# EAGLE library part ATSAML10D16A-MFT (library ATSAML10D16A-YFT)
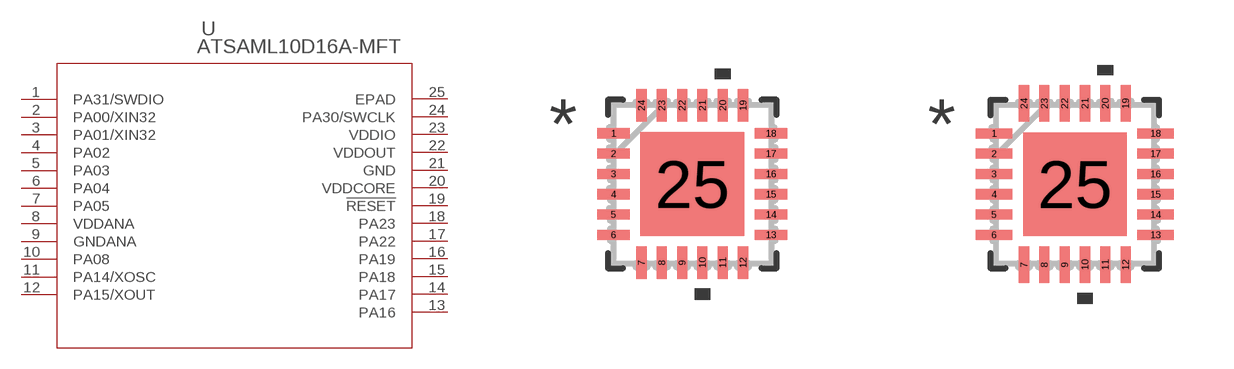
[diagram p1: symbol with the pads of QFN24_4X4MC_MCH; footprints QFN24_4X4MC_MCH, QFN24_4X4MC_MCH-M]

Designator prefix U

## ATSAML10D16A-MFT (BUILT_BY: EMA_Molly; COPYRIGHT: Copyright (C) 2018 Accelerated Designs. All rights reserved; MANUFACTURER_PART_NUMBER: ATSAML10D16A-MFT; SOURCELIBRARY: Microchip_2019-08-23_25; VENDOR: Microchip)  [QFN24_4X4MC_MCH]
1  PA31/SWDIO
2  PA00/XIN32  in
3  PA01/XIN32  in
4  PA02
5  PA03
6  PA04
7  PA05
8  VDDANA  pwr
9  GNDANA  pas
10  PA08
11  PA14/XOSC
12  PA15/XOUT  out
13  PA16
14  PA17
15  PA18
16  PA19
17  PA22
18  PA23
19  !RESET  pas
20  VDDCORE  pwr
21  GND  pas
22  VDDOUT  out
23  VDDIO  pwr
24  PA30/SWCLK
25  EPAD  pas

## ATSAML10D16A-MFTQFN24_4X4MC_MCH-M (BUILT_BY: EMA_Molly; COPYRIGHT: Copyright (C) 2018 Accelerated Designs. All rights reserved; MANUFACTURER_PART_NUMBER: ATSAML10D16A-MFT; SOURCELIBRARY: Microchip_2019-08-23_25; VENDOR: Microchip)  [QFN24_4X4MC_MCH-M]
Pads as for QFN24_4X4MC_MCH

## ATSAML10D16A-MFTQFN24_4X4MC_MCH-L (BUILT_BY: EMA_Molly; COPYRIGHT: Copyright (C) 2018 Accelerated Designs. All rights reserved; MANUFACTURER_PART_NUMBER: ATSAML10D16A-MFT; SOURCELIBRARY: Microchip_2019-08-23_25; VENDOR: Microchip)  [QFN24_4X4MC_MCH-L]
Pads as for QFN24_4X4MC_MCH

## Footprint QFN24_4X4MC_MCH (pad centres in mm)
smd 0.813 x 0.254: 1 -1.968,1.27; 2 -1.968,0.762; 3 -1.968,0.254; 4 -1.968,-0.254; 5 -1.968,-0.762; 6 -1.968,-1.27; 13 1.968,-1.27; 14 1.968,-0.762; 15 1.968,-0.254; 16 1.968,0.254; 17 1.968,0.762; 18 1.968,1.27
smd 0.254 x 0.813: 7 -1.27,-1.968; 8 -0.762,-1.968; 9 -0.254,-1.968; 10 0.254,-1.968; 11 0.762,-1.968; 12 1.27,-1.968; 19 1.27,1.968; 20 0.762,1.968; 21 0.254,1.968; 22 -0.254,1.968; 23 -0.762,1.968; 24 -1.27,1.968
smd 2.591 x 2.591: 25 0,0

## Footprint QFN24_4X4MC_MCH-M (pad centres in mm)
smd 0.914 x 0.254: 1 -2.019,1.27; 2 -2.019,0.762; 3 -2.019,0.254; 4 -2.019,-0.254; 5 -2.019,-0.762; 6 -2.019,-1.27; 13 2.019,-1.27; 14 2.019,-0.762; 15 2.019,-0.254; 16 2.019,0.254; 17 2.019,0.762; 18 2.019,1.27
smd 0.254 x 0.914: 7 -1.27,-2.019; 8 -0.762,-2.019; 9 -0.254,-2.019; 10 0.254,-2.019; 11 0.762,-2.019; 12 1.27,-2.019; 19 1.27,2.019; 20 0.762,2.019; 21 0.254,2.019; 22 -0.254,2.019; 23 -0.762,2.019; 24 -1.27,2.019
smd 2.591 x 2.591: 25 0,0

## Footprint QFN24_4X4MC_MCH-L (pad centres in mm)
smd 0.711 x 0.254: 1 -1.918,1.27; 2 -1.918,0.762; 3 -1.918,0.254; 4 -1.918,-0.254; 5 -1.918,-0.762; 6 -1.918,-1.27; 13 1.918,-1.27; 14 1.918,-0.762; 15 1.918,-0.254; 16 1.918,0.254; 17 1.918,0.762; 18 1.918,1.27
smd 0.254 x 0.711: 7 -1.27,-1.918; 8 -0.762,-1.918; 9 -0.254,-1.918; 10 0.254,-1.918; 11 0.762,-1.918; 12 1.27,-1.918; 19 1.27,1.918; 20 0.762,1.918; 21 0.254,1.918; 22 -0.254,1.918; 23 -0.762,1.918; 24 -1.27,1.918
smd 2.591 x 2.591: 25 0,0